# EAGLE library part EXP1.3-C (library usb-fpga-1)
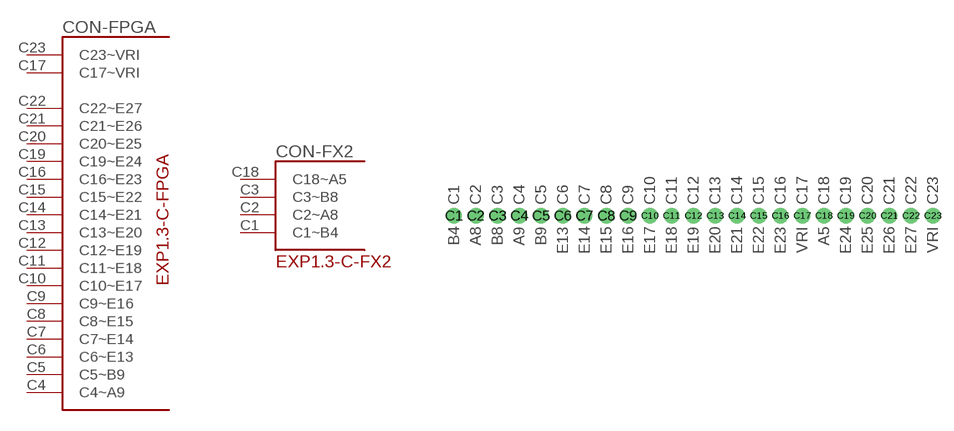
[diagram p15: symbol with the pads of EXP1.3-C; footprint EXP1.3-C]

Designator prefix CON; gates -FX2=EXP1.3-C-FX2 -FPGA=EXP1.3-C-FPGA

## EXP1.3-C  [EXP1.3-C]
C1  -FX2:C1~B4
C2  -FX2:C2~A8
C3  -FX2:C3~B8
C4  -FPGA:C4~A9
C5  -FPGA:C5~B9
C6  -FPGA:C6~E13
C7  -FPGA:C7~E14
C8  -FPGA:C8~E15
C9  -FPGA:C9~E16
C10  -FPGA:C10~E17
C11  -FPGA:C11~E18
C12  -FPGA:C12~E19
C13  -FPGA:C13~E20
C14  -FPGA:C14~E21
C15  -FPGA:C15~E22
C16  -FPGA:C16~E23
C17  -FPGA:C17~VRI
C18  -FX2:C18~A5
C19  -FPGA:C19~E24
C20  -FPGA:C20~E25
C21  -FPGA:C21~E26
C22  -FPGA:C22~E27
C23  -FPGA:C23~VRI

## Footprint EXP1.3-C (pad centres in mm)
drill 1.2 round: C1 0,0; C2 2.54,0; C3 5.08,0; C4 7.62,0; C5 10.16,0; C6 12.7,0; C7 15.24,0; C8 17.78,0; C9 20.32,0; C10 22.86,0; C11 25.4,0; C12 27.94,0; C13 30.48,0; C14 33.02,0; C15 35.56,0; C16 38.1,0; C17 40.64,0; C18 43.18,0; C19 45.72,0; C20 48.26,0; C21 50.8,0; C22 53.34,0; C23 55.88,0